# Altium schematic symbol library XC6206P.SchLib: 1 symbol
Pins are listed as number, name and electrical type; pins without a type are passive.

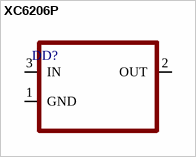
[diagram p0: symbol XC6206P]

## XC6206P
designator DD?
pins: 1 GND, 2 OUT, 3 IN